# Altium schematic symbol library Logic.SchLib: 13 symbols (part 3 of 4)
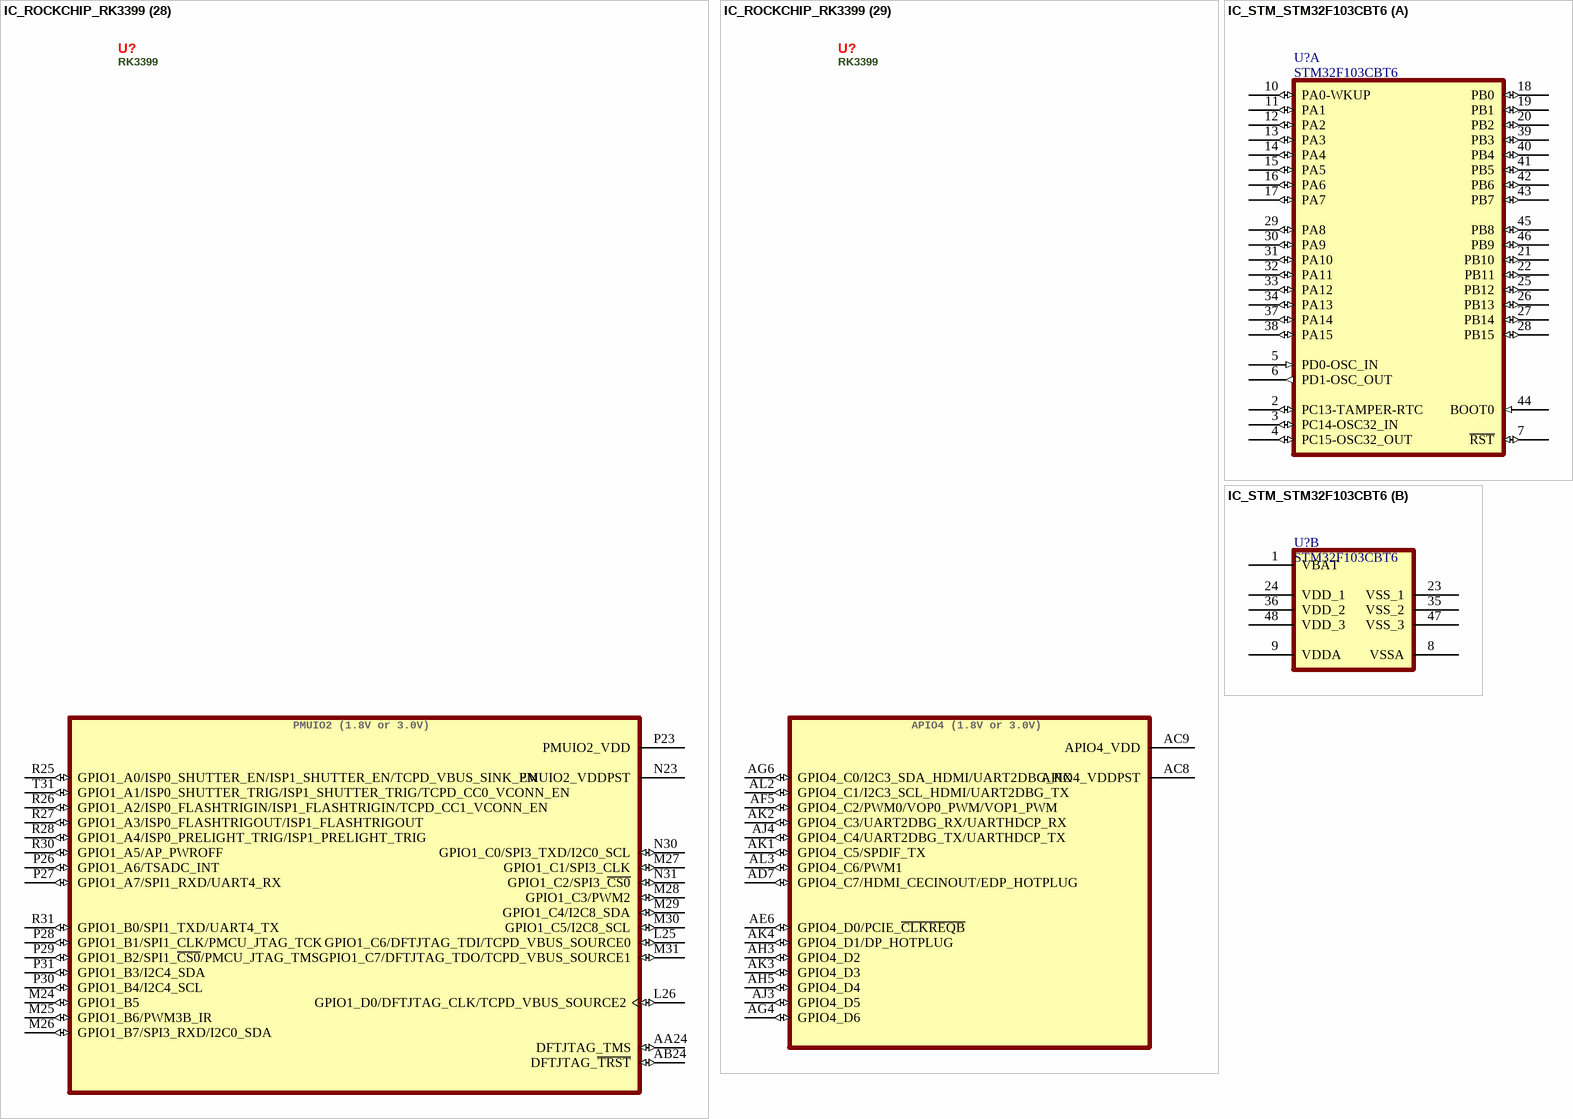
[diagram p109: symbols IC_ROCKCHIP_RK3399 to IC_STM_STM32F103CBT6]

# Altium schematic symbol library Logic.SchLib: 13 symbols (continued)
part Z pins: AB8 APIO3_VDD_1V8 (power) "GPIO Group 3 Digital Power", AD8 GPIO2_C4/SDIO0_D0/SPI5_RXD (io) "GPIO2_C4 // SDIO0_D0 (SDIO Card Data Input and Output // SPI5_RXD (SPI Serial Data Input)", AD9 GPIO2_D3/SDIO0_PWREN (io) "GPIO2_D3 // SDIO0_PWREN (SDIO Card Power-Enable Control Signal", AE8 GPIO2_C7/SDIO0_D3/SPI5_~{CS0} (io) "GPIO2_C7 // SDIO0_D3 (SDIO Card Data Input and Output // SPI5_CSn0 (SPI 1st Chip Select)", AE9 GPIO2_C0/UART0_RX (io) "GPIO2_C0 // UART0_RX (UART Serial Data Input)", AF7 GPIO2_D1/SDIO0_CLKOUT/TEST_CLKOUT1 (io) "GPIO2_D1 // SDIO0_CLKOUT (SDIO Card Clock) // TEST_CLKOUT1", AF8 GPIO2_D4/SDIO0_BKPWR (io) "GPIO2_D4 // SDIO0_BKPWR (Back-End Power Supply for Embedded Device)", AG7 GPIO2_C6/SDIO0_D2/SPI5_CLK (io) "GPIO2_C6 // SDIO0_D2 (SDIO Card Data Input and Output // SPI5_CLK (SPI Serial Clock)", AG8 GPIO2_C2/UART0_~{CTS} (io) "GPIO2_C2 // UART0_CTSn (UART Clear to Send)", AH6 GPIO2_D0/SDIO0_CMD (io) "GPIO2_D0 // SDIO2_CMD (SDIO Card Command Output and Response Input)", AH8 GPIO2_C1/UART0_TX (io) "GPIO2_C1 // UART0_TX (UART Serial Data Output)", AK5 GPIO2_C5/SDIO0_D1/SPI5_TXD (io) "GPIO2_C5 // SDIO0_D1 (SDIO Card Data Input and Output // SPI5_TXD (SPI Serial Data Output)", AL4 GPIO2_D2/SDIO0_DETN/PCIE_~{CLKREQ} (io) "GPIO2_D2 // SDIO0_DETN (SDIO Card Detect Signal, a 0 represents presence of card) // PCIE_CLKREQn (PCIe Clock Request from PCIe Peripheral)", AL5 GPIO2_C3/UART0_~{RTS} (io) "GPIO2_C3 // UART0_RTSn (UART Request to Send)"